# EAGLE library part INA103U (library burr-brown)
Low Noise, Low Distortion Instrumentation Amplifier
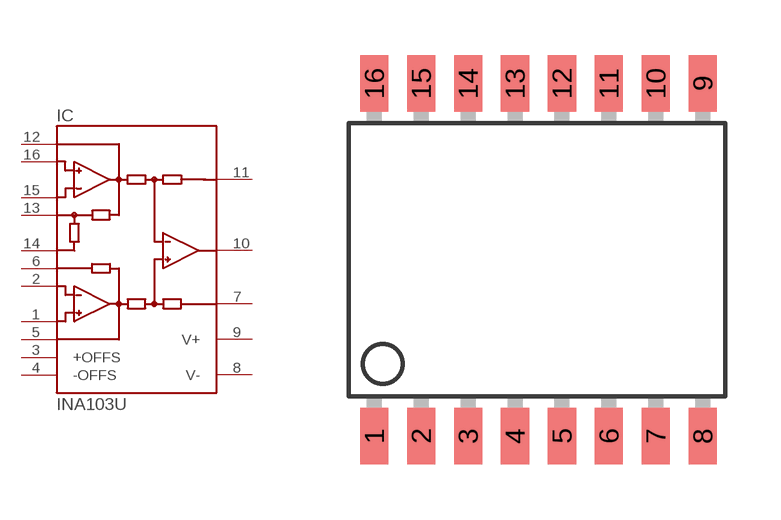
[diagram p256: symbol with the pads of SO16-1; footprint SO16-1]

Designator prefix IC

## INA103U  [SO16-1]
1  +IN  in
2  +GS  in
3  +OFFS  pas
4  -OFFS  pas
5  +GD  pas
6  +RG  pas
7  REF  pas
8  V-  pwr
9  V+  pwr
10  OUT  out
11  SENSE  in
12  -GD  pas
13  -RG  pas
14  G=100  pas
15  -GS  in
16  -IN  in

## Footprint SO16-1 (pad centres in mm)
smd 0.762 x 1.524: 1 -4.445,-4.775; 2 -3.175,-4.775; 3 -1.905,-4.775; 4 -0.635,-4.775; 5 0.635,-4.775; 6 1.905,-4.775; 7 3.175,-4.775; 8 4.445,-4.775; 9 4.445,4.775; 10 3.175,4.775; 11 1.905,4.775; 12 0.635,4.775; 13 -0.635,4.775; 14 -1.905,4.775; 15 -3.175,4.775; 16 -4.445,4.775